# Altium schematic symbol library Spindle Drive.SchLib: 2 symbols
Pins are listed as number, name and electrical type; pins without a type are passive.

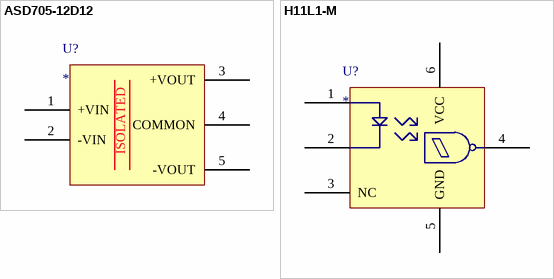
[diagram p0: symbols ASD705-12D12 to H11L1-M]

## ASD705-12D12
designator U?
Astrodyne 9-18VDC in, +/-12VDC out iso regulated DC-DC
footprint Astrodyne_ASD705
pins: 1 +VIN (power), 2 -VIN (power), 3 +VOUT (power), 4 COMMON (power), 5 -VOUT (power)
text: ISOLATED

## H11L1-M
designator U?
footprint DIP-6 (DIP; 6 Leads; Row Spacing 7.62 mm; Pitch 2.54 mm)
footprint H11L3M_SMT
pins: 1 A, 2 K, 3 NC, 4 VO, 5 GND (power), 6 VCC (power)